# Altium schematic symbol library TTL.SchLib: 36 symbols
Pins are listed as number, name and electrical type; pins without a type are passive.

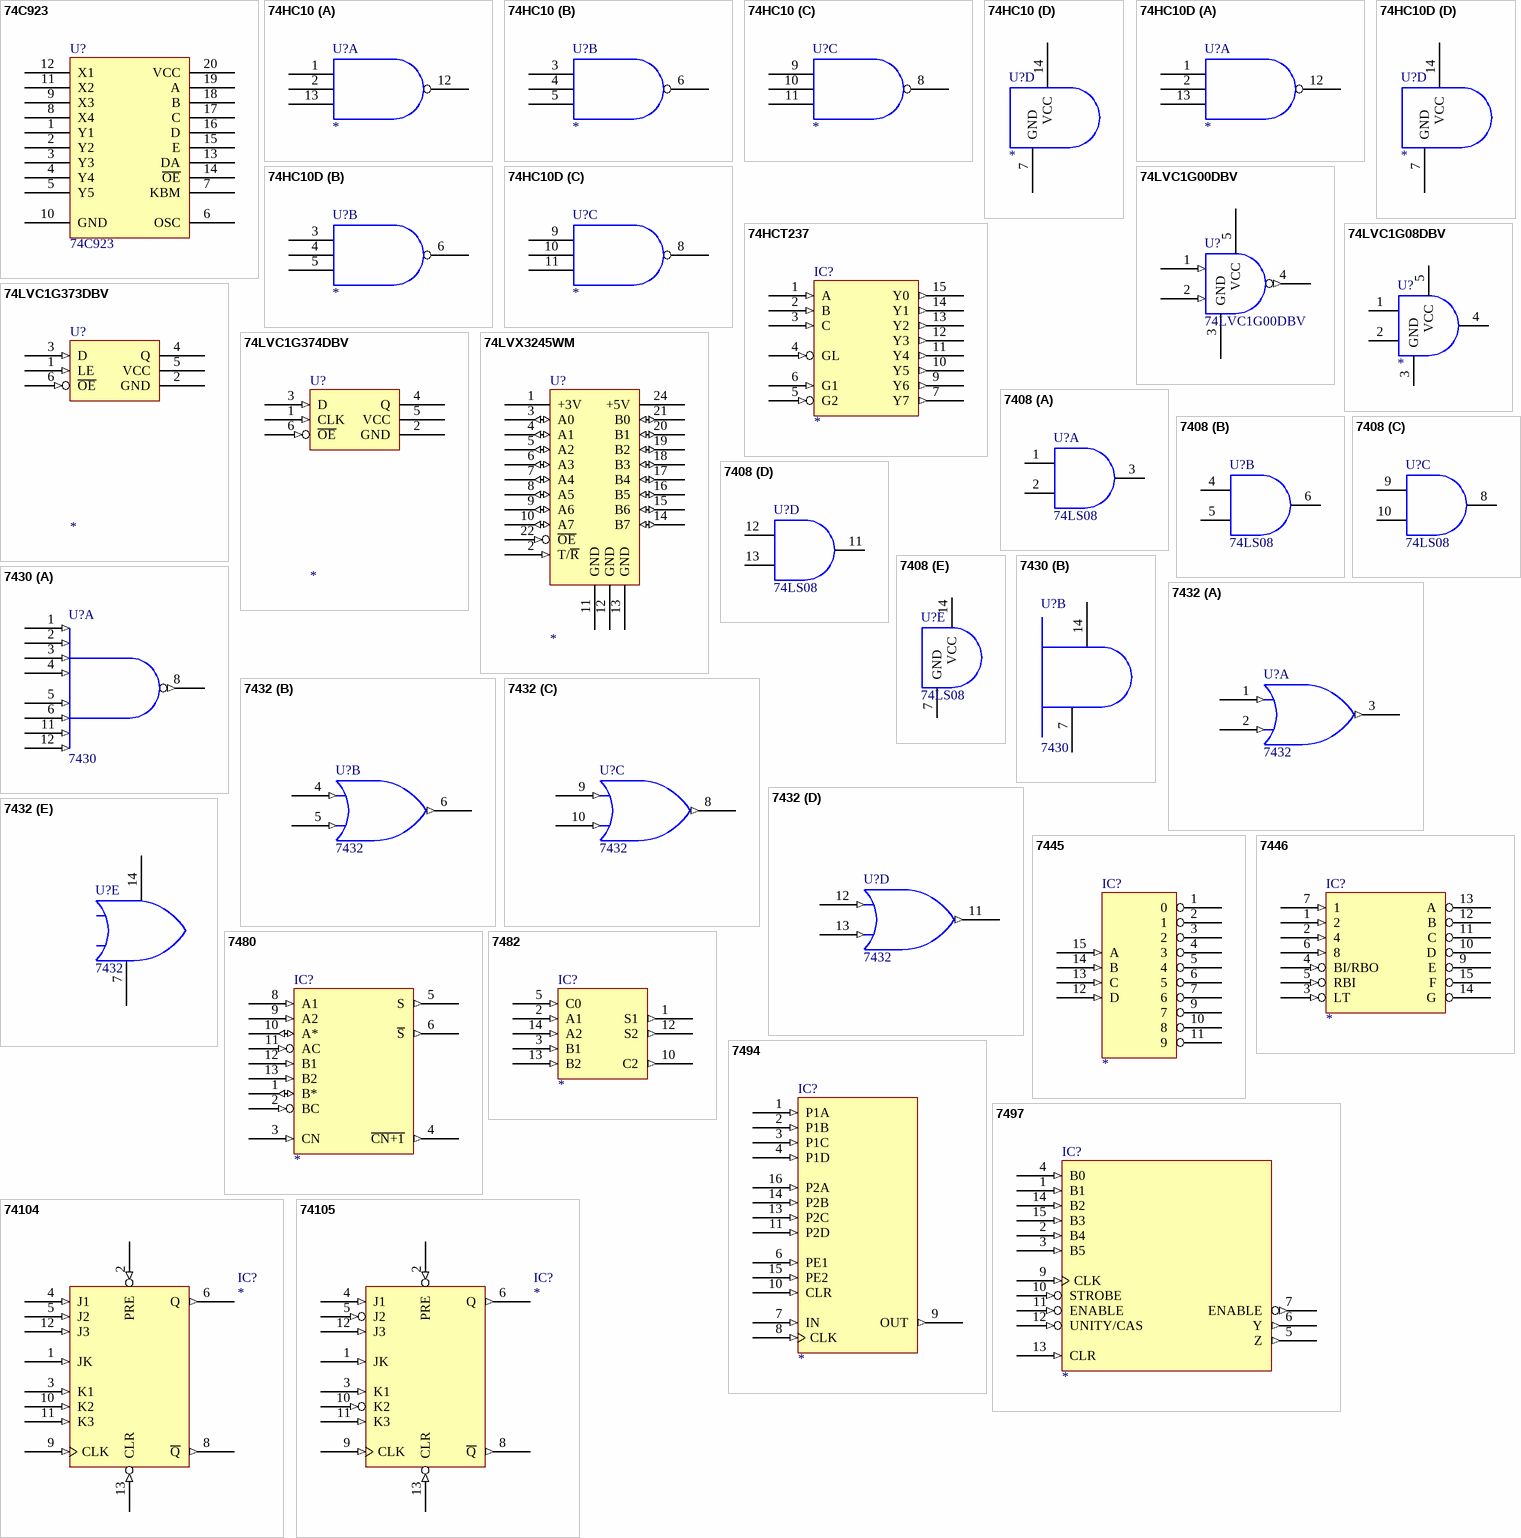
[diagram p0: symbols 74C923 to 74105]

## 74C923
designator U?
Value: 74C923
pins: 1 Y1, 2 Y2, 3 Y3, 4 Y4, 5 Y5, 6 OSC, 7 KBM, 8 X4, 9 X3, 10 GND, 11 X2, 12 X1, 13 DA, 14 ~{OE}, 15 E, 16 D, 17 C, 18 B, 19 A, 20 VCC

## 74HC10
designator U?
footprint 14DIP300
footprint 14SOIC150
part A pins: 1 I0, 2 I1, 12 O, 13 I2
part B pins: 3 I0, 4 I1, 5 I2, 6 O
part C pins: 8 O, 9 I0, 10 I1, 11 I2
part D pins: 7 GND, 14 VCC
1 alternate drawing of the same symbol

## 74HC10D
designator U?
Value: 74HC10D
footprint 14SOIC150
part A pins: 1 I0, 2 I1, 12 O, 13 I2
part B pins: 3 I0, 4 I1, 5 I2, 6 O
part C pins: 8 O, 9 I0, 10 I1, 11 I2
part D pins: 7 GND, 14 VCC
1 alternate drawing of the same symbol

## 74HCT237
designator IC?
pins: 1 A (in), 2 B (in), 3 C (in), 4 GL (in), 5 G2 (in), 6 G1 (in), 7 Y7 (out), 8 GND (power) hidden to GND, 9 Y6 (out), 10 Y5 (out), 11 Y4 (out), 12 Y3 (out), 13 Y2 (out), 14 Y1 (out), 15 Y0 (out), 16 VCC (power) hidden to VCC

## 74LVC1G00DBV
designator U?
Value: 74LVC1G00DBV
footprint SOT23-5
pins: 1 I0 (in), 2 I1 (in), 3 GND, 4 O (out), 5 VCC
1 alternate drawing of the same symbol

## 74LVC1G08DBV
designator U?
footprint SOT23-5
pins: 1 I0, 2 I1, 3 GND, 4 O, 5 VCC
1 alternate drawing of the same symbol

## 74LVC1G373DBV
designator U?
footprint SOT23-6
pins: 1 LE (in), 2 GND, 3 D (in), 4 Q (hiz), 5 VCC, 6 ~{OE} (in)

## 74LVC1G374DBV
designator U?
footprint SOT23-6
pins: 1 CLK (in), 2 GND, 3 D (in), 4 Q (hiz), 5 VCC, 6 ~{OE} (in)

## 74LVX3245WM
designator U?
footprint 24SOIC300
footprint MO-153AD
pins: 1 +3V (power), 2 T/~{R} (in), 3 A0 (io), 4 A1 (io), 5 A2 (io), 6 A3 (io), 7 A4 (io), 8 A5 (io), 9 A6 (io), 10 A7 (io), 11 GND (power), 12 GND (power), 13 GND (power), 14 B7 (io), 15 B6 (io), 16 B5 (io), 17 B4 (io), 18 B3 (io), 19 B2 (io), 20 B1 (io), 21 B0 (io), 22 ~{OE} (in), 24 +5V

## 7408
designator U?, comment 74LS08
Value: 74LS08
part A pins: 1 I0, 2 I1, 3 O
part B pins: 4 I0, 5 I1, 6 O
part C pins: 8 O, 9 I0, 10 I1
part D pins: 11 O, 12 I0, 13 I1
part E pins: 7 GND, 14 VCC
1 alternate drawing of the same symbol

## 7430
designator U?
Value: 7430
part A pins: 1 I0 (in), 2 I1 (in), 3 I2 (in), 4 I3 (in), 5 I4 (in), 6 I5 (in), 8 O (out), 11 I6 (in), 12 I7 (in)
part B pins: 7 GND, 14 VCC
1 alternate drawing of the same symbol

## 7432
designator U?
Value: 7432
part A pins: 1 I0 (in), 2 I1 (in), 3 O (out)
part B pins: 4 I0 (in), 5 I1 (in), 6 O (out)
part C pins: 8 O (out), 9 I0 (in), 10 I1 (in)
part D pins: 11 O (out), 12 I0 (in), 13 I1 (in)
part E pins: 7 GND, 14 VCC
1 alternate drawing of the same symbol

## 7445
designator IC?
pins: 1 0 (oc), 2 1 (oc), 3 2 (oc), 4 3 (oc), 5 4 (oc), 6 5 (oc), 7 6 (oc), 8 GND (power) hidden to GND, 9 7 (oc), 10 8 (oc), 11 9 (oc), 12 D (in), 13 C (in), 14 B (in), 15 A (in), 16 VCC (power) hidden to VCC

## 7446
designator IC?
pins: 1 2 (in), 2 4 (in), 3 LT (in), 4 BI/RBO (in), 5 RBI (in), 6 8 (in), 7 1 (in), 8 GND (power) hidden to GND, 9 E (oc), 10 D (oc), 11 C (oc), 12 B (oc), 13 A (oc), 14 G (oc), 15 F (oc), 16 VCC (power) hidden to VCC

## 7480
designator IC?
pins: 1 B* (io), 2 BC (in), 3 CN (in), 4 ~{CN+1} (out), 5 S (out), 6 ~{S} (out), 7 GND (power) hidden to GND, 8 A1 (in), 9 A2 (in), 10 A* (io), 11 AC (in), 12 B1 (in), 13 B2 (in), 14 VCC (power) hidden to VCC

## 7482
designator IC?
pins: 1 S1 (out), 2 A1 (in), 3 B1 (in), 4 VCC (power) hidden to VCC, 5 C0 (in), 7 GND (power) hidden to GND, 10 C2 (out), 12 S2 (out), 13 B2 (in), 14 A2 (in)

## 7494
designator IC?
pins: 1 P1A (in), 2 P1B (in), 3 P1C (in), 4 P1D (in), 5 VCC (power) hidden to VCC, 6 PE1 (in), 7 IN (in), 8 CLK (in), 9 OUT (out), 10 CLR (in), 11 P2D (in), 12 GND (power) hidden to GND, 13 P2C (in), 14 P2B (in), 15 PE2 (in), 16 P2A (in)

## 7497
designator IC?
pins: 1 B1 (in), 2 B4 (in), 3 B5 (in), 4 B0 (in), 5 Z (out), 6 Y (out), 7 ENABLE (out), 8 GND (power) hidden to GND, 9 CLK (in), 10 STROBE (in), 11 ENABLE (in), 12 UNITY/CAS (in), 13 CLR (in), 14 B2 (in), 15 B3 (in), 16 VCC (power) hidden to VCC

## 74104
designator IC?
pins: 1 JK (in), 2 PRE (in), 3 K1 (in), 4 J1 (in), 5 J2 (in), 6 Q (out), 7 GND (power) hidden to GND, 8 ~{Q} (out), 9 CLK (in), 10 K2 (in), 11 K3 (in), 12 J3 (in), 13 CLR (in), 14 VCC (power) hidden to VCC

## 74105
designator IC?
pins: 1 JK (in), 2 PRE (in), 3 K1 (in), 4 J1 (in), 5 J2 (in), 6 Q (out), 7 GND (power) hidden to GND, 8 ~{Q} (out), 9 CLK (in), 10 K2 (in), 11 K3 (in), 12 J3 (in), 13 CLR (in), 14 VCC (power) hidden to VCC

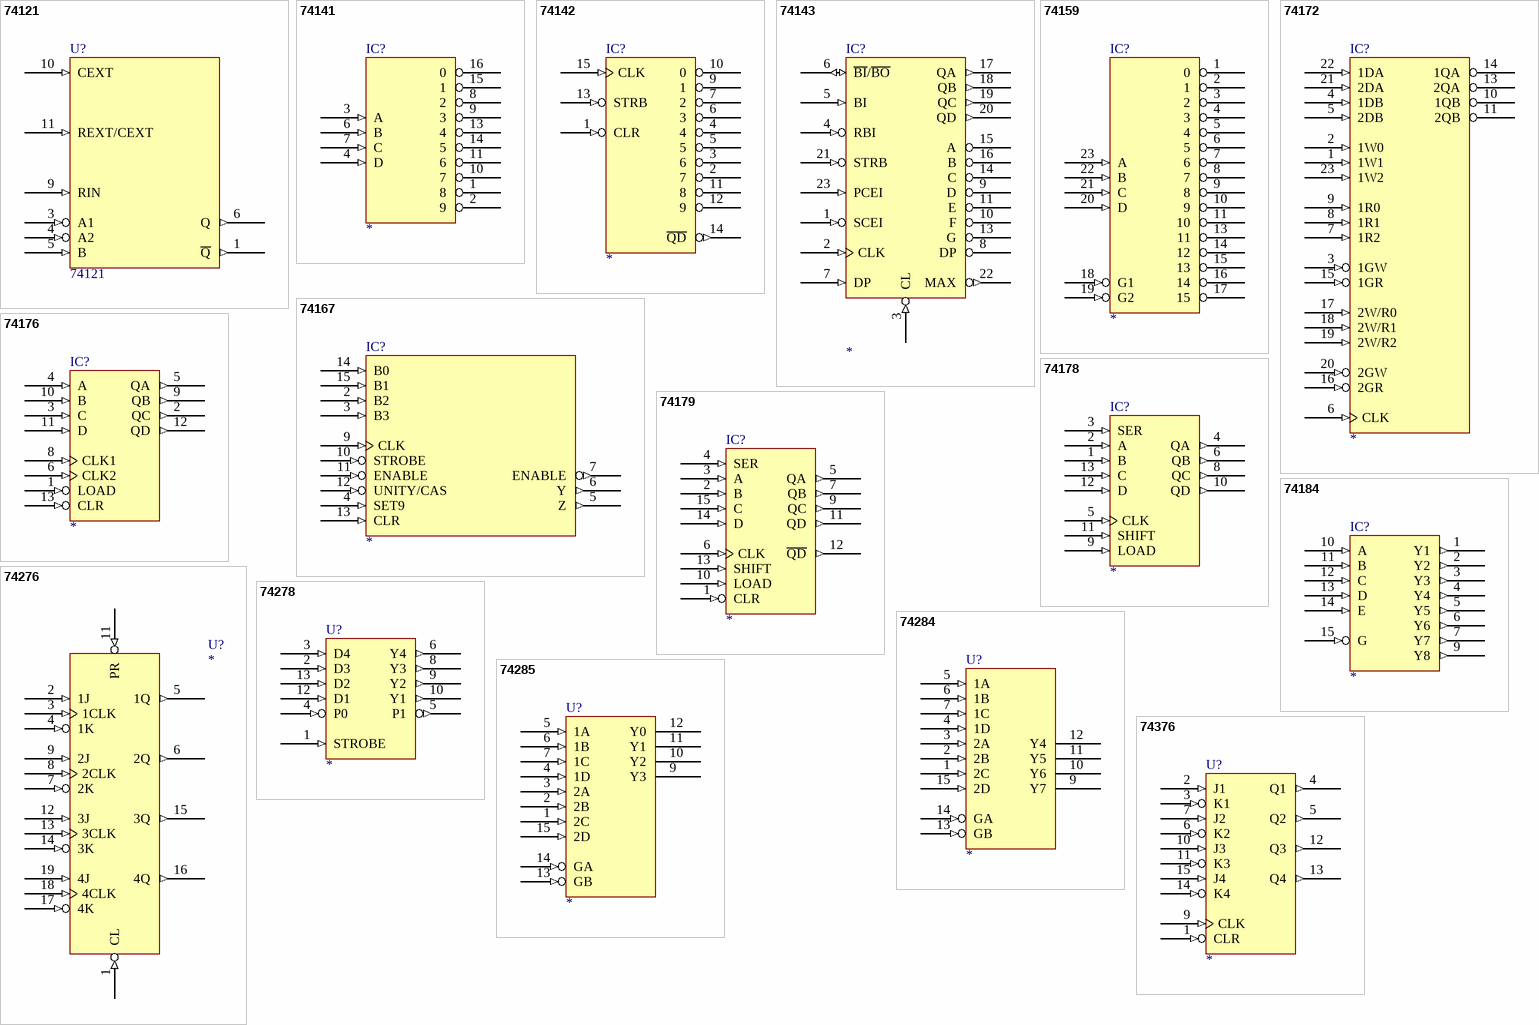
[diagram p1: symbols 74121 to 74376]

## 74121
designator U?
Value: 74121
pins: 1 ~{Q} (out), 3 A1 (in), 4 A2 (in), 5 B (in), 6 Q (out), 7 GND (power) hidden to GND, 9 RIN (in), 10 CEXT (in), 11 REXT/CEXT (in), 14 VCC (power) hidden to VCC

## 74141
designator IC?
pins: 1 8 (oc), 2 9 (oc), 3 A (in), 4 D (in), 5 VCC (power) hidden to VCC, 6 B (in), 7 C (in), 8 2 (oc), 9 3 (oc), 10 7 (oc), 11 6 (oc), 12 GND (power) hidden to GND, 13 4 (oc), 14 5 (oc), 15 1 (oc), 16 0 (oc)

## 74142
designator IC?
pins: 1 CLR (in), 2 7 (oc), 3 6 (oc), 4 (oc), 5 (oc), 6 3 (oc), 7 2 (oc), 8 GND (power) hidden to GND, 9 1 (oc), 10 0 (oc), 11 8 (oc), 12 9 (oc), 13 STRB (in), 14 ~{QD} (out), 15 CLK (in), 16 VCC (power) hidden to VCC

## 74143
designator IC?
pins: 1 SCEI (in), 2 CLK (in), 3 CL (in), 4 RBI (in), 5 BI (in), 6 ~{BI}/~{BO} (io), 7 DP (in), 8 DP (oc), 9 D (oc), 10 F (oc), 11 E (oc), 12 GND (power) hidden to GND, 13 G (oc), 14 C (oc), 15 A (oc), 16 B (oc), 17 QA (out), 18 QB (out), 19 QC (out), 20 QD (out), 21 STRB (in), 22 MAX (out), 23 PCEI (in), 24 VCC (power) hidden to VCC

## 74159
designator IC?
pins: 1 0 (oc), 2 1 (oc), 3 2 (oc), 4 3 (oc), 5 4 (oc), 6 5 (oc), 7 6 (oc), 8 7 (oc), 9 8 (oc), 10 9 (oc), 11 10 (oc), 12 GND (power) hidden to GND, 13 11 (oc), 14 12 (oc), 15 13 (oc), 16 14 (oc), 17 15 (oc), 18 G1 (in), 19 G2 (in), 20 D (in), 21 C (in), 22 B (in), 23 A (in), 24 VCC (power) hidden to VCC

## 74167
designator IC?
pins: 2 B2 (in), 3 B3 (in), 4 SET9 (in), 5 Z (out), 6 Y (out), 7 ENABLE (out), 8 GND (power) hidden to GND, 9 CLK (in), 10 STROBE (in), 11 ENABLE (in), 12 UNITY/CAS (in), 13 CLR (in), 14 B0 (in), 15 B1 (in), 16 VCC (power) hidden to VCC

## 74172
designator IC?
pins: 1 1W1 (in), 2 1W0 (in), 3 1GW (in), 4 1DB (in), 5 2DB (in), 6 CLK (in), 7 1R2 (in), 8 1R1 (in), 9 1R0 (in), 10 1QB (hiz), 11 2QB (hiz), 12 GND (power) hidden to GND, 13 2QA (hiz), 14 1QA (hiz), 15 1GR (in), 16 2GR (in), 17 2W/R0 (in), 18 2W/R1 (in), 19 2W/R2 (in), 20 2GW (in), 21 2DA (in), 22 1DA (in), 23 1W2 (in), 24 VCC (power) hidden to VCC

## 74176
designator IC?
pins: 1 LOAD (in), 2 QC (out), 3 C (in), 4 A (in), 5 QA (out), 6 CLK2 (in), 7 GND (power) hidden to GND, 8 CLK1 (in), 9 QB (out), 10 B (in), 11 D (in), 12 QD (out), 13 CLR (in), 14 VCC (power) hidden to VCC

## 74178
designator IC?
pins: 1 B (in), 2 A (in), 3 SER (in), 4 QA (out), 5 CLK (in), 6 QB (out), 7 GND (power) hidden to GND, 8 QC (out), 9 LOAD (in), 10 QD (out), 11 SHIFT (in), 12 D (in), 13 C (in), 14 VCC (power) hidden to VCC

## 74179
designator IC?
pins: 1 CLR (in), 2 B (in), 3 A (in), 4 SER (in), 5 QA (out), 6 CLK (in), 7 QB (out), 8 GND (power) hidden to GND, 9 QC (out), 10 LOAD (in), 11 QD (out), 12 ~{QD} (out), 13 SHIFT (in), 14 D (in), 15 C (in), 16 VCC (power) hidden to VCC

## 74184
designator IC?
pins: 1 Y1 (out), 2 Y2 (out), 3 Y3 (out), 4 Y4 (out), 5 Y5 (out), 6 Y6 (out), 7 Y7 (out), 8 GND (power) hidden to GND, 9 Y8 (out), 10 A (in), 11 B (in), 12 C (in), 13 D (in), 14 E (in), 15 G (in), 16 VCC (power) hidden to VCC

## 74276
designator U?
pins: 1 CL (in), 2 1J (in), 3 1CLK (in), 4 1K (in), 5 1Q (out), 6 2Q (out), 7 2K (in), 8 2CLK (in), 9 2J (in), 10 GND (power) hidden to GND, 11 PR (in), 12 3J (in), 13 3CLK (in), 14 3K (in), 15 3Q (out), 16 4Q (out), 17 4K (in), 18 4CLK (in), 19 4J (in), 20 VCC (power) hidden to VCC

## 74278
designator U?
pins: 1 STROBE (in), 2 D3 (in), 3 D4 (in), 4 P0 (in), 5 P1 (out), 6 Y4 (out), 7 GND (power) hidden to GND, 8 Y3 (out), 9 Y2 (out), 10 Y1 (out), 12 D1 (in), 13 D2 (in), 14 VCC (power) hidden to VCC

## 74284
designator U?
pins: 1 2C (in), 2 2B (in), 3 2A (in), 4 1D (in), 5 1A (in), 6 1B (in), 7 1C (in), 8 GND (power) hidden to GND, 9 Y7 (oc), 10 Y6 (oc), 11 Y5 (oc), 12 Y4 (oc), 13 GB (in), 14 GA (in), 15 2D (in), 16 VCC (power) hidden to VCC

## 74285
designator U?
pins: 1 2C (in), 2 2B (in), 3 2A (in), 4 1D (in), 5 1A (in), 6 1B (in), 7 1C (in), 8 GND (power) hidden to GND, 9 Y3 (oc), 10 Y2 (oc), 11 Y1 (oc), 12 Y0 (oc), 13 GB (in), 14 GA (in), 15 2D (in), 16 VCC (power) hidden to VCC

## 74376
designator U?
pins: 1 CLR (in), 2 J1 (in), 3 K1 (in), 4 Q1 (out), 5 Q2 (out), 6 K2 (in), 7 J2 (in), 8 GND (power) hidden to GND, 9 CLK (in), 10 J3 (in), 11 K3 (in), 12 Q3 (out), 13 Q4 (out), 14 K4 (in), 15 J4 (in), 16 VCC (power) hidden to VCC